# Altium schematic symbol library Transistors N-MOSFET.SchLib: 15 symbols
Pins are listed as number, name and electrical type; pins without a type are passive.

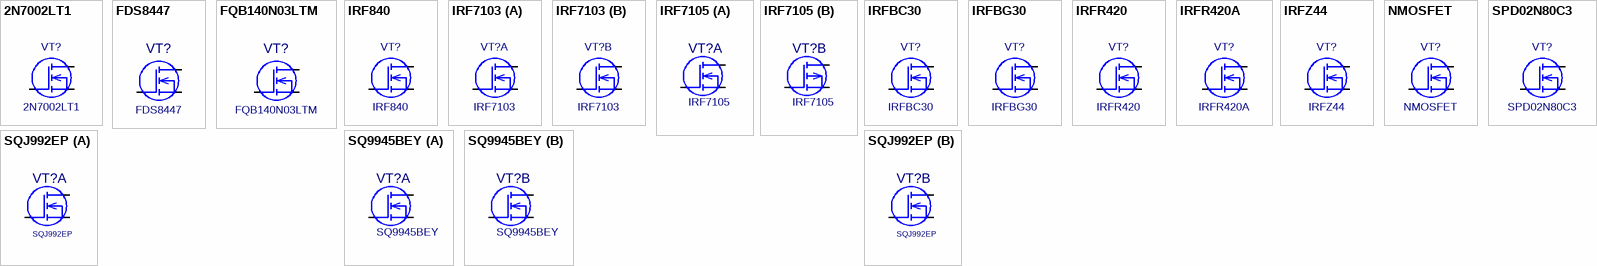
[diagram p0: symbols 2N7002LT1 to SQJ992EP]

## 2N7002LT1
designator VT?
NPN General Purpose Amplifier; OriginalName: 2N4124; ComponentField6: Published 8-Jun-2000, Modified 11-July-2000: SIM Model Added.; Value: *
simulation model 2N4124
footprint SOT-23
pins: 1 G, 2 S, 3 D

## FDS8447
designator VT?
Value: *
footprint SO-8 FET
pins: 1, 2, 3

## FQB140N03LTM
designator VT?
Value: *
footprint D2PAK TO-263-2
pins: 1, 2, 3

## IRF840
designator VT?
NPN General Purpose Amplifier; OriginalName: 2N4124; ComponentField6: Published 8-Jun-2000, Modified 11-July-2000: SIM Model Added.; Value: *
simulation model 2N4124
footprint TO-220AB_Primary
footprint TO-220AB_TO-200AB-R
footprint TO-220AB_TO-200AB-R1
footprint TO-220AB_TO-220AB-1
footprint TO-220AB_TO-220AB-2
pins: 1 G, 2 S, 3 D

## IRF7103
designator VT?
NPN General Purpose Amplifier; OriginalName: 2N4124; ComponentField6: Published 8-Jun-2000, Modified 11-July-2000: SIM Model Added.; Value: *
simulation model 2N4124
footprint SOIC 8
pins on every part: 6 D hidden, 8 D hidden
part A pins: 1 S, 2 G, 7 D
part B pins: 3 S, 4 G, 5 D

## IRF7105
designator VT?
footprint SOIC8 DBL FET
part A pins: 1, 2, 6
part B pins: 3, 4, 5

## IRFBC30
designator VT?
IRFBG30, Nкан 1000В 3.1А, TO220AB; OriginalName: 2N4124; ComponentField6: Published 8-Jun-2000, Modified 11-July-2000: SIM Model Added.; Price: 27,00; Value: *
simulation model 2N4124
footprint TO-220AB_Primary
footprint TO-220AB_TO-200AB-R
footprint TO-220AB_TO-200AB-R1
footprint TO-220AB_TO-220AB-1
footprint TO-220AB_TO-220AB-2
pins: 1 G, 2 S, 3 D

## IRFBG30
designator VT?
IRFBG30, Nкан 1000В 3.1А, TO220AB; OriginalName: 2N4124; ComponentField6: Published 8-Jun-2000, Modified 11-July-2000: SIM Model Added.; Price: 27,00; Value: *
simulation model 2N4124
footprint TO-220AB_Primary
footprint TO-220AB_TO-200AB-R
footprint TO-220AB_TO-200AB-R1
footprint TO-220AB_TO-220AB-1
footprint TO-220AB_TO-220AB-2
pins: 1 G, 2 S, 3 D

## IRFR420
designator VT?
NPN General Purpose Amplifier; OriginalName: 2N4124; ComponentField6: Published 8-Jun-2000, Modified 11-July-2000: SIM Model Added.; Value: *
simulation model 2N4124
footprint D-PAK (TO-252)
pins: 1 G, 2 S, 3 D

## IRFR420A
designator VT?
NPN General Purpose Amplifier; OriginalName: 2N4124; ComponentField6: Published 8-Jun-2000, Modified 11-July-2000: SIM Model Added.; Value: *
simulation model 2N4124
footprint D-PAK (TO-252)
pins: 1 G, 2 S, 3 D

## IRFZ44
designator VT?
NPN General Purpose Amplifier; OriginalName: 2N4124; ComponentField6: Published 8-Jun-2000, Modified 11-July-2000: SIM Model Added.; Value: *
simulation model 2N4124
footprint TO-220AB_Primary
footprint TO-220AB_TO-200AB-R
footprint TO-220AB_TO-200AB-R1
footprint TO-220AB_TO-220AB-1
footprint TO-220AB_TO-220AB-2
pins: 1 G, 2 S, 3 D

## NMOSFET
designator VT?
N-channel MOSFET; OriginalName: 2N4124; ComponentField6: Published 8-Jun-2000, Modified 11-July-2000: SIM Model Added.; Value: *
footprint D-PAK (TO-252)
footprint D2PAK TO-263-2
footprint D3PAK TO-268-2L
pins: 1 G, 2 S, 3 D

## SPD02N80C3
designator VT?
MOSFET 800V 2A 2.7om; OriginalName: 2N4124; ComponentField6: Published 8-Jun-2000, Modified 11-July-2000: SIM Model Added.; Value: *
simulation model 2N4124
footprint D-PAK (TO-252)
pins: 1 G, 2 S, 3 D

## SQ9945BEY
designator VT?
footprint SOIC8 DBL FET
part A pins: 1, 2, 6
part B pins: 3, 4, 5

## SQJ992EP
designator VT?
footprint PowerPAK SO-8L Dual
part A pins: 1, 2, 6
part B pins: 3, 4, 5